# Altium schematic symbol library CAP_TH.SchLib: 18 symbols
Pins are listed as number, name and electrical type; pins without a type are passive.

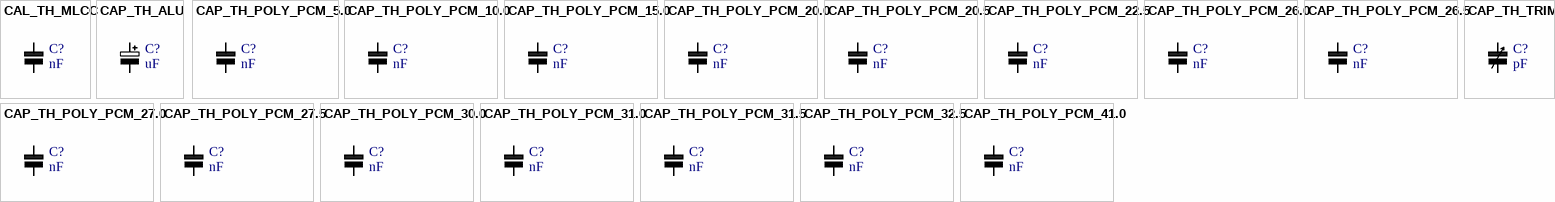
[diagram p0: symbols CAL_TH_MLCC to CAP_TH_TRIM]

## CAL_TH_MLCC
designator C?, comment nF
Value: nF
footprint C Disc HV PCM5 D5.5x2.5
footprint C Disc HV PCM5 D8.0x2.5
footprint C Disc HV PCM5 D9.0x2.5
footprint C Disc HV PCM7.5 D8.5x2.5
footprint C Disc HV PCM7.5 D12.5x3.5
footprint C Disc PCM2.5 D5.0x2.0
footprint C Disc PCM2.5 D5.5x2.0
footprint C Disc PCM2.5 D6.0x2.0
footprint C Disc PCM2.5 D6.5x2.0
footprint C Disc PCM5 D5.0x2.0
footprint C Disc PCM5 D5.5x2.0
footprint C Disc PCM5 D6.0x2.5
footprint C Disc PCM5 D6.5x2.5
footprint C Disc PCM5 D8.0x2.5
footprint C Disc PCM5 D8.5x2.5
footprint C Disc PCM5 D9.0x2.5
footprint C Disc Y1 PCM7.5 D6.5x3.5
footprint C Disc Y1 PCM7.5 D6.5x3.5a
footprint C Disc Y1 PCM7.5 D6.5x3.5b
footprint C Disc Y1 PCM7.5 D12.5x3.5
footprint C Disc Y1 PCM7.5 D12.5x3.5a
footprint C Disc Y1 PCM7.5 D12.5x3.5b
footprint C Disc Y1 PCM10 D6.0x4.6a
footprint C Disc Y1 PCM10 D6.0x4.6b
footprint C Disc Y1 PCM10 D6.0x4.6
footprint C Disc Y1 PCM10 D6.5x3.5
footprint C Disc Y1 PCM10 D6.5x3.5a
footprint C Disc Y1 PCM10 D6.5x3.5b
footprint C Disc Y1 PCM10 D9.0x4.6
footprint C Disc Y1 PCM10 D9.0x4.6a
footprint C Disc Y1 PCM10 D9.0x4.6b
footprint C Disc Y1 PCM10 D12.5x3.5
footprint C Disc Y1 PCM10 D12.5x3.5a
footprint C Disc Y1 PCM10 D12.5x3.5b
footprint C MLCC PCM2.54 4.0x2.8 h3.8
footprint C MLCC PCM5.08 4.2x3.0 h3.8
footprint C MLCC PCM5.08 4.2x3.0 h5.0
footprint C MLCC PCM5.08 5.0x3.5 h4.5
pins: 1, 2

## CAP_TH_ALU
designator C?, comment uF
Value: uF
footprint CAP ALTH D8 L3.5 H12.5 (8MM Diameter, 3.5MM Lead Spacing Aluminium Capacitor)
footprint CAP ALTH D10 L5 H12.5 (10MM Diameter, 5MM Lead Spacing Aluminium Capacitor)
footprint CAP ALTH D10 L5 H14.5 (10MM Diameter, 5MM Lead Spacing Aluminium Capacitor)
footprint CAP ALTH D10 L5 H17.5 (10MM Diameter, 5MM Lead Spacing Aluminium Capacitor)
footprint CAP ALTH D10 L5 H22 (10MM Diameter, 5MM Lead Spacing Aluminium Capacitor)
footprint CAP ALTH D10 L5 H30 (10MM Diameter, 5MM Lead Spacing Aluminium Capacitor)
footprint CAP ALTH D12.5 L5 H14 (12.5MM Diameter, 5MM Lead Spacing Aluminium Capacitor)
footprint CAP ALTH D12.5 L5 H15 (12.5MM Diameter, 5MM Lead Spacing Aluminium Capacitor)
footprint CAP ALTH D12.5 L5 H16.5 (12.5MM Diameter, 5MM Lead Spacing Aluminium Capacitor)
footprint CAP ALTH D12.5 L5 H17.5 (12.5MM Diameter, 5MM Lead Spacing Aluminium Capacitor)
footprint CAP ALTH D12.5 L5 H20 (12.5MM Diameter, 5MM Lead Spacing Aluminium Capacitor)
footprint CAP ALTH D12.5 L5 H21.5 (12.5MM Diameter, 5MM Lead Spacing Aluminium Capacitor)
footprint CAP ALTH D12.5 L5 H22 (12.5MM Diameter, 5MM Lead Spacing Aluminium Capacitor)
footprint CAP ALTH D12.5 L5 H26.5 (12.5MM Diameter, 5MM Lead Spacing Aluminium Capacitor)
footprint CAP ALTH D12.5 L5 H27 (12.5MM Diameter, 5MM Lead Spacing Aluminium Capacitor)
footprint CAP ALTH D12.5 L5 H35.5 (12.5MM Diameter, 5MM Lead Spacing Aluminium Capacitor)
footprint CAP ALTH D16 L7.5 H16.5 (16MM Diameter, 7.5MM Lead Spacing Aluminium Capacitor)
footprint CAP ALTH D16 L7.5 H20 (16MM Diameter, 7.5MM Lead Spacing Aluminium Capacitor)
footprint CAP ALTH D16 L7.5 H22 (16MM Diameter, 7.5MM Lead Spacing Aluminium Capacitor)
footprint CAP ALTH D16 L7.5 H26.5 (16MM Diameter, 7.5MM Lead Spacing Aluminium Capacitor)
footprint CAP ALTH D16 L7.5 H27 (16MM Diameter, 7.5MM Lead Spacing Aluminium Capacitor)
footprint CAP ALTH D16 L7.5 H33.5 (16MM Diameter, 7.5MM Lead Spacing Aluminium Capacitor)
footprint CAP ALTH D16 L7.5 H37 (16MM Diameter, 7.5MM Lead Spacing Aluminium Capacitor)
footprint CAP ALTH D22 L10 H14.5 (16MM Diameter, 7.5MM Lead Spacing Aluminium Capacitor)
footprint CAP ALTH D22 L10 H33 (16MM Diameter, 7.5MM Lead Spacing Aluminium Capacitor)
footprint CAP ALTH D22 L10 H43 (16MM Diameter, 7.5MM Lead Spacing Aluminium Capacitor)
footprint CAP ALTH D22 L10 H53 (16MM Diameter, 7.5MM Lead Spacing Aluminium Capacitor)
footprint CAP ALTH D25 L12.5 H14.5 (16MM Diameter, 7.5MM Lead Spacing Aluminium Capacitor)
footprint CAP ALTH D25 L12.5 H32 (16MM Diameter, 7.5MM Lead Spacing Aluminium Capacitor)
footprint CAP ALTH D25 L12.5 H42 (16MM Diameter, 7.5MM Lead Spacing Aluminium Capacitor)
footprint CAP ALTH D25 L12.5 H52 (16MM Diameter, 7.5MM Lead Spacing Aluminium Capacitor)
pins: 1, 2

## CAP_TH_POLY_PCM_5.0
designator C?, comment nF
Value: nF
footprint MPT111 PCM5 7.2x2.5 h6.5
footprint MPT111 PCM5 7.2x2.5 h6.5r
footprint MPT111 PCM5 7.2x3.5 h7.5
footprint MPT111 PCM5 7.2x4.5 h9.5
footprint MPT111 PCM5 7.2x5 h10
footprint MPT111 PCM5 7.2x6 h11
pins: 1, 2

## CAP_TH_POLY_PCM_10.0
designator C?, comment nF
Value: nF
footprint MPT PCM10.0 12.0x4.0 h7
footprint MPT PCM10.0 12.0x5.0 h8
footprint MPT PCM10.0 12.0x5.5 h9
footprint MPT PCM10.0 12.5x5.0 h9.5
footprint MPT PCM10.0 12.5x5.5 h10
footprint MPT PCM10.0 12.5x5.5 h11
footprint MPT PCM10.0 12.5x6.0 h9
footprint MPT PCM10.0 12.5x6.0 h10
footprint MPT PCM10.0 12.5x6.5 h10
footprint MPT PCM10.0 12.5x6.5 h11
footprint MPT PCM10.0 12.5x6.5 h12
pins: 1, 2

## CAP_TH_POLY_PCM_15.0
designator C?, comment nF
Value: nF
footprint MKP X2 PCM15.0 18.0x6.0 h12 (100n 275V)
footprint MPT PCM15.0 17.0x6.0 h9
footprint MPT PCM15.0 17.0x6.0 h12.5
footprint MPT PCM15.0 17.0x6.5 h11.5
footprint MPT PCM15.0 17.0x7.0 h13.5
footprint MPT PCM15.0 17.5x5.0 h10.5
footprint MPT PCM15.0 17.5x6.0 h11
footprint MPT PCM15.0 17.5x7.0 h11
footprint MPT PCM15.0 18.0x7.5 h13.5
footprint MPT PCM15.0 18.0x7.5 h14
footprint MPT PCM15.0 18.0x8.0 h15
footprint MPT PCM15.0 18.0x7.5 h14.5
footprint MPT PCM15.0 18.0x8.0 h14
footprint Philips 373 PCM15 (18.0x8.0 h15)
pins: 1, 2

## CAP_TH_POLY_PCM_20.0
designator C?, comment nF
Value: nF
footprint MPT PCM20.0 23.0x7.5 h14.5
footprint MPT PCM20.0 23.0x7.5 h16
footprint MPT PCM20.0 23.0x8.0 h16
footprint MPT PCM20.0 23.0x8.5 h16.5
footprint MPT PCM20.0 23.0x9.5 h17
footprint MPT PCM20.0 23.5x10.0 h18.5
footprint MPT PCM20.0 23.5x11.0 h20.5
pins: 1, 2

## CAP_TH_POLY_PCM_20.5
designator C?, comment nF
Value: nF
footprint MPT PCM20.5 23.0x8.0 h14
footprint MPT PCM20.5 23.0x8.5 h14.5
footprint MPT PCM20.5 23.0x8.5 h16.5
footprint MPT PCM20.5 23.0x10.5 h15
footprint MPT PCM20.5 23.0x11.0 h18
footprint MPT PCM20.5 23.5x8.5 h16
footprint MPT PCM20.5 23.5x9.0 h19
footprint MPT PCM20.5 23.5x9.5 h19.5
footprint MPT PCM20.5 24.0x10.0 h22
footprint MPT PCM20.5 24.0x12.0 h20.5
pins: 1, 2

## CAP_TH_POLY_PCM_22.5
designator C?, comment nF
Value: nF
footprint MPT PCM22.5 25.0x8.5 h15
footprint MPT PCM22.5 25.0x9.5 h15.5
footprint Plessey PCM22.5 (26.5x7.0 h16.5)
footprint MKP X2 PCM22.5 26.5x8.5 h17 (470n 275V)
footprint MKP X2 PCM22.5 26.5x8.5 h17 (470n 275V) Hor
pins: 1, 2

## CAP_TH_POLY_PCM_26.0
designator C?, comment nF
Value: nF
footprint MPT PCM26.0 30.0x12.5 h21
pins: 1, 2

## CAP_TH_POLY_PCM_26.5
designator C?, comment nF
Value: nF
footprint MPT PCM26.0 30.0x12.5 h21
footprint MPT PCM26.5 29.5x11.0 h21
footprint MPT PCM26.5 29.5x13.0 h23
footprint MPT PCM26.5 29.5x14.0 h24
footprint MPT PCM26.5 30.0x16.0 h26
pins: 1, 2

## CAP_TH_POLY_PCM_27.0
designator C?, comment nF
Value: nF
footprint MPT PCM27.0 30.0x8.5 h17.5
footprint MPT PCM27.0 30.0x8.5 h19
footprint MPT PCM27.0 30.0x12.5 h27
footprint MPT PCM27.0 30.0x14.0 h21
pins: 1, 2

## CAP_TH_POLY_PCM_27.5
designator C?, comment nF
Value: nF
footprint MPT PCM27.5 29.5x14.0 h26.5
footprint MPT PCM27.5 30.0x9.0 h19
footprint MPT PCM27.5 30.0x9.5 h20.5
footprint MPT PCM27.5 30.5x12.5 h23.5
footprint MPT PCM27.5 30.5x15.5 h26.5
footprint MKP X2 PCM27.5 31.5x12 h22 (470n 250V)
pins: 1, 2

## CAP_TH_POLY_PCM_30.0
designator C?, comment nF
Value: nF
footprint MPT PCM30.0 35.0x17.0 h25
pins: 1, 2

## CAP_TH_POLY_PCM_31.0
designator C?, comment nF
Value: nF
footprint MPT PCM31.0 34.0x16.0 h24.5
footprint MPT PCM31.0 34.5x17.5 h25
footprint MPT PCM31.0 35.0x20.0 h28
footprint MPT PCM31.5 35.0x19.0 h33
pins: 1, 2

## CAP_TH_POLY_PCM_31.5
designator C?, comment nF
Value: nF
footprint MPT PCM31.5 34.0x12.5 h24
footprint MPT PCM31.5 35.0x17.0 h27
footprint MPT PCM31.5 35.0x19.0 h33
pins: 1, 2

## CAP_TH_POLY_PCM_32.5
designator C?, comment nF
Value: nF
footprint MPT PCM32.5 35.0x9.0 h19
footprint MPT PCM32.5 35.0x10.0 h18
pins: 1, 2

## CAP_TH_POLY_PCM_41.0
designator C?, comment nF
Value: nF
footprint MPT PCM41.0 45.0x17.5 h27.5
footprint MPT PCM41.0 45.0x20.5 h29.5
footprint MPT PCM41.0 45.0x22.0 h32
pins: 1, 2

## CAP_TH_TRIM
designator C?, comment pF
Value: pF
footprint C Trimmer 12-180p
footprint CTRM_6X6 (CAP, TRIMMER, Murata TZ03)
footprint CTRM_10X10 (CAP, TRIMMER, 10X10mm 3P)
footprint TSC6 Blue 2-5p
footprint TSC6 Brown 9.8-50p
footprint TSC6 Green 6.2-30p
footprint TSC6 Red 4.2-20p
footprint TSC6 White 3-10p
footprint TSC6 Yellow 6.8-40p
pins: 1, 2